# Altium footprint library LQFP100-0.5-13.8X13.8MM.PcbLib: 1 footprints
Each footprint in its own frame and in the unit in brackets; x right, y up, seen from the top. Pads: shape width x height; smd on the part's side, far side on the other; paste and mask are expansions set on the pad; w line width, h text height; cw(c..) or ccw(c..) is an arc to the next point about the centre after c.
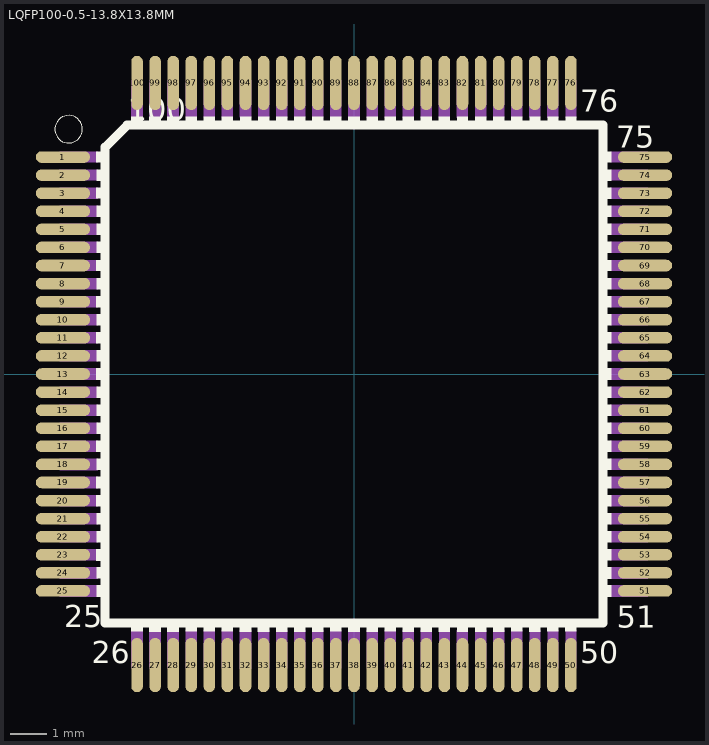
[diagram p0: the footprint, top view; thin cyan lines are the x and y axes]

## LQFP100-0.5-13.8X13.8MM [mm]
pads (100):
  oval 1.5x0.32 smd: 1(-8.05,6) 2(-8.05,5.5) 3(-8.05,5) 4(-8.05,4.5) 5(-8.05,4) 6(-8.05,3.5) 7(-8.05,3) 8(-8.05,2.5) 9(-8.05,2) 10(-8.05,1.5) 11(-8.05,1) 12(-8.05,0.5) 13(-8.05,0) 14(-8.05,-0.5) 15(-8.05,-1) 16(-8.05,-1.5) 17(-8.05,-2) 18(-8.05,-2.5) 19(-8.05,-3) 20(-8.05,-3.5) 21(-8.05,-4) 22(-8.05,-4.5) 23(-8.05,-5) 24(-8.05,-5.5) 25(-8.05,-6) 51(8.05,-6) 52(8.05,-5.5) 53(8.05,-5) 54(8.05,-4.5) 55(8.05,-4) 56(8.05,-3.5) 57(8.05,-3) 58(8.05,-2.5) 59(8.05,-2) 60(8.05,-1.5) 61(8.05,-1) 62(8.05,-0.5) 63(8.05,0) 64(8.05,0.5) 65(8.05,1) 66(8.05,1.5) 67(8.05,2) 68(8.05,2.5) 69(8.05,3) 70(8.05,3.5) 71(8.05,4) 72(8.05,4.5) 73(8.05,5) 74(8.05,5.5) 75(8.05,6)
  oval 0.32x1.5 smd: 26(-6,-8.05) 27(-5.5,-8.05) 28(-5,-8.05) 29(-4.5,-8.05) 30(-4,-8.05) 31(-3.5,-8.05) 32(-3,-8.05) 33(-2.5,-8.05) 34(-2,-8.05) 35(-1.5,-8.05) 36(-1,-8.05) 37(-0.5,-8.05) 38(0,-8.05) 39(0.5,-8.05) 40(1,-8.05) 41(1.5,-8.05) 42(2,-8.05) 43(2.5,-8.05) 44(3,-8.05) 45(3.5,-8.05) 46(4,-8.05) 47(4.5,-8.05) 48(5,-8.05) 49(5.5,-8.05) 50(6,-8.05) 76(6,8.05) 77(5.5,8.05) 78(5,8.05) 79(4.5,8.05) 80(4,8.05) 81(3.5,8.05) 82(3,8.05) 83(2.5,8.05) 84(2,8.05) 85(1.5,8.05) 86(1,8.05) 87(0.5,8.05) 88(0,8.05) 89(-0.5,8.05) 90(-1,8.05) 91(-1.5,8.05) 92(-2,8.05) 93(-2.5,8.05) 94(-3,8.05) 95(-3.5,8.05) 96(-4,8.05) 97(-4.5,8.05) 98(-5,8.05) 99(-5.5,8.05) 100(-6,8.05)
Top Overlay:
  drawing of 106 lines, arcs and shapes, not listed
  text "25" at -8.007,-7.006 h0.61
  text "26" at -7.255,-8.005 h0.61
  text "50" at 6.252,-8.002 h0.61
  text "51" at 7.264,-7.013 h0.61
  text "75" at 7.251,6.251 h0.61
  text "76" at 6.254,7.255 h0.61
  text "100" at -6.262,7.013 h0.61
Mechanical 13:
  drawing of 100 lines, arcs and shapes, not listed
3D body "step_temp.STEP": height 1.6, standoff 0, extent -8,-8 8,8